# Altium footprint library SPDT_C&K_KSC421J70SHLFSPF_50mA.PcbLib: 1 footprints
Each footprint in its own frame and in the unit in brackets; x right, y up, seen from the top. Pads: shape width x height; smd on the part's side, far side on the other; paste and mask are expansions set on the pad; w line width, h text height; cw(c..) or ccw(c..) is an arc to the next point about the centre after c.
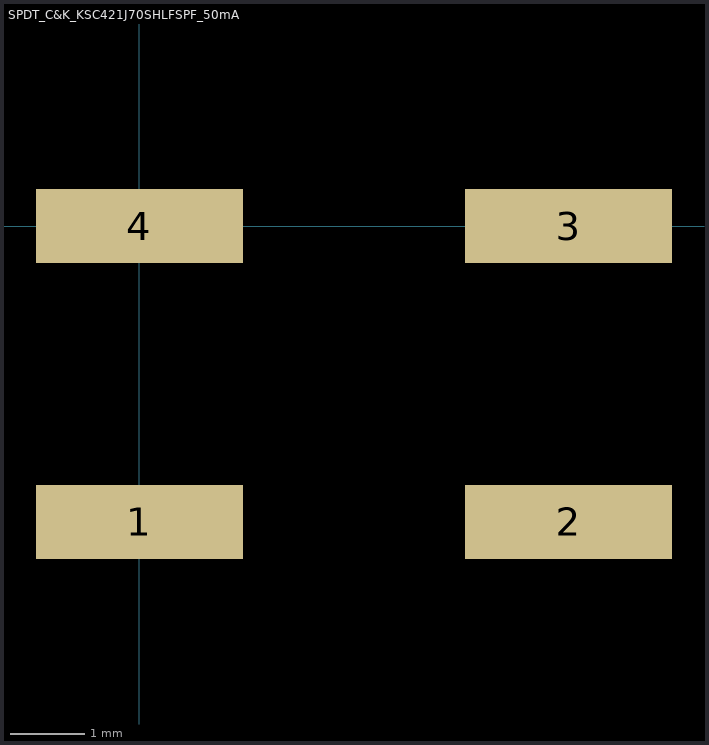
[diagram p0: the footprint, top view; thin cyan lines are the x and y axes]

## SPDT_C&K_KSC421J70SHLFSPF_50mA [mm]
pads (4):
  rect 2.8x1 smd: 1(0,-4) 2(5.8,-4) 3(5.8,0) 4(0,0)
3D body "KSC401J50SHLFS.stp": height 5.2, standoff 0, extent -0.5,-5.14 6.3,1.16